# Altium schematic symbol library BQ24170.SchLib: 1 symbol
Pins are listed as number, name and electrical type; pins without a type are passive.

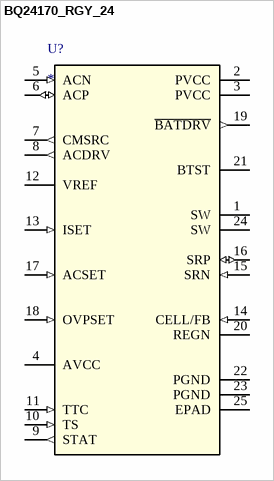
[diagram p0: symbol BQ24170_RGY_24]

## BQ24170_RGY_24
designator U?
1.6-MHz Synchronous Switched-Mode Li-Ion and Li-Polymer Stand-Alone Battery Charger With Integrated MOSFETs and Power Path Selector; Manufacturer: Texas Instruments; GENERIC_PART_NUMBER: BQ24170; INDUSTRY_STD_PKG_TYPE: VQFN; FAMILY_NAME: BATTERY CHARGE MANAGEMENT; PIN_COUNT: 24; PACKAGE_DESIGNATOR: RGY; Datasheet_URL: http://www.ti.com/lit/gpn/BQ24170; Value: Value; Type: Type; RefDes: RefDes
footprint RGY24_2P05X3P1
pins: 1 SW (power), 2 PVCC (power), 3 PVCC (power), 4 AVCC (power), 5 ACN (in), 6 ACP (io), 7 CMSRC (out), 8 ACDRV (out), 9 STAT (out), 10 TS (in), 11 TTC (in), 12 VREF (power), 13 ISET (in), 14 CELL/FB (in), 15 SRN (in), 16 SRP (io), 17 ACSET (in), 18 OVPSET (in), 19 ~{BATDRV} (out), 20 REGN (power), 21 BTST (power), 22 PGND (power), 23 PGND (power), 24 SW (power), 25 EPAD (power)